# Altium footprint library Buzzer.PcbLib: 1 footprints
Each footprint in its own frame and in the unit in brackets; x right, y up, seen from the top. Pads: shape width x height; smd on the part's side, far side on the other; paste and mask are expansions set on the pad; w line width, h text height; cw(c..) or ccw(c..) is an arc to the next point about the centre after c.
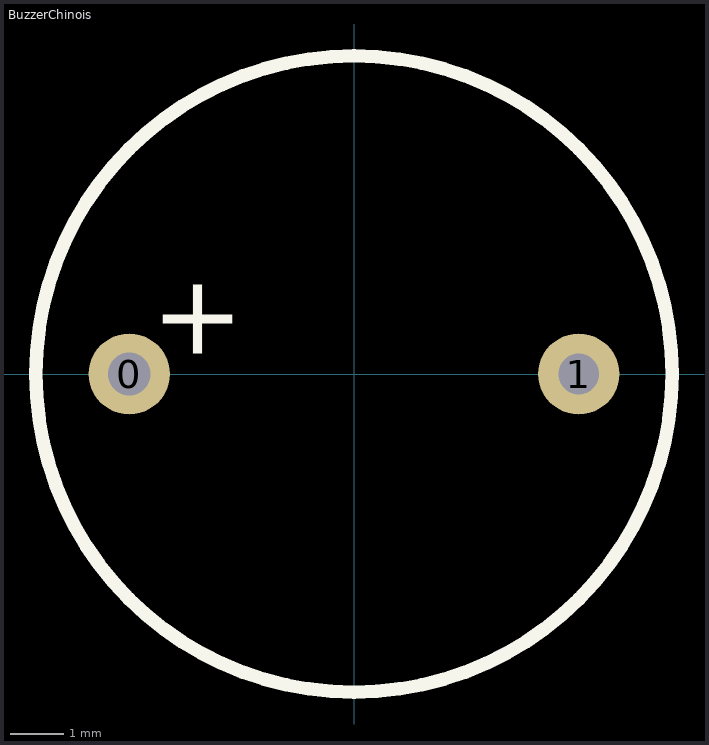
[diagram p0: the footprint, top view; thin cyan lines are the x and y axes]

## BuzzerChinois [mil]
pads (2):
  round 60 hole 31.5: 0(-166.14,0)
  round 60 hole 30: 1(166.14,0)
Top Overlay:
  circle w10: c0,0 r235.21
  text "+" at -150,15 h60